# Altium schematic symbol library Radio.SchLib: 2 symbols
Pins are listed as number, name and electrical type; pins without a type are passive.

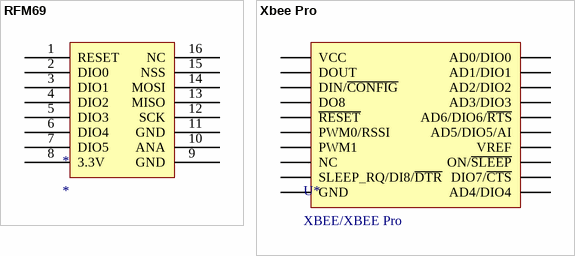
[diagram p0: symbols RFM69 to Xbee Pro]

## RFM69
designator *
footprint RFM69
pins: 1 RESET, 2 DIO0, 3 DIO1, 4 DIO2, 5 DIO3, 6 DIO4, 7 DIO5, 8 3.3V, 9 GND, 10 ANA, 11 GND, 12 SCK, 13 MISO, 14 MOSI, 15 NSS, 16 NC

## Xbee Pro
designator U*, comment XBEE/XBEE Pro
footprint XBEE PRO
footprint XBEE - Surface Mount (XBEE, Mounted on NorComp 28631006RP2 Headers)
footprint XBEE
pins: 1 VCC, 2 DOUT, 3 DIN/~{CONFIG}, 4 DO8, 5 ~{RESET}, 6 PWM0/RSSI, 7 PWM1, 8 NC, 9 SLEEP_RQ/DI8/~{DTR}, 10 GND, 11 AD4/DIO4, 12 DIO7/~{CTS}, 13 ON/~{SLEEP}, 14 VREF, 15 AD5/DIO5/AI, 16 AD6/DIO6/~{RTS}, 17 AD3/DIO3, 18 AD2/DIO2, 19 AD1/DIO1, 20 AD0/DIO0